# Altium schematic symbol library RTL8211.SchLib: 1 symbol
Pins are listed as number, name and electrical type; pins without a type are passive.

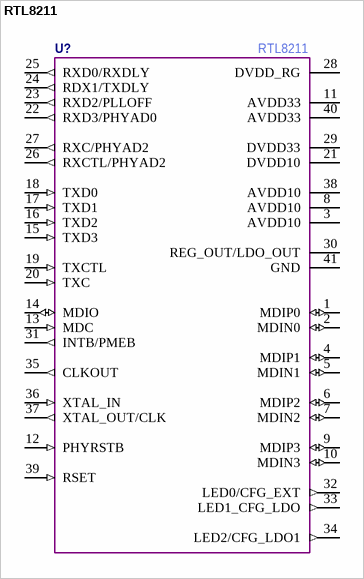
[diagram p0: symbol RTL8211]

## RTL8211
designator U?  Manufacturer Part Number: RTL8211  (hidden comment: *)
pins: 1 MDIP0 (io), 2 MDIN0 (io), 3 AVDD10 (power), 4 MDIP1 (io), 5 MDIN1 (io), 6 MDIP2 (io), 7 MDIN2 (io), 8 AVDD10 (power), 9 MDIP3 (io), 10 MDIN3 (io), 11 AVDD33 (power), 12 PHYRSTB (in), 13 MDC (in), 14 MDIO (io), 15 TXD3 (in), 16 TXD2 (in), 17 TXD1 (in), 18 TXD0 (in), 19 TXCTL (in), 20 TXC (in), 21 DVDD10 (power), 22 RXD3/PHYAD0 (out), 23 RXD2/PLLOFF (out), 24 RDX1/TXDLY (out), 25 RXD0/RXDLY (out), 26 RXCTL/PHYAD2 (out), 27 RXC/PHYAD2 (out), 28 DVDD_RG (power), 29 DVDD33 (power), 30 REG_OUT/LDO_OUT (power), 31 INTB/PMEB (out), 32 LED0/CFG_EXT (out), 33 LED1_CFG_LDO (out), 34 LED2/CFG_LDO1 (out), 35 CLKOUT (out), 36 XTAL_IN (in), 37 XTAL_OUT/CLK (out), 38 AVDD10 (power), 39 RSET (in), 40 AVDD33 (power), 41 GND (power)